# EAGLE library part CC3220MODASF12MONR (library cc3220mod)
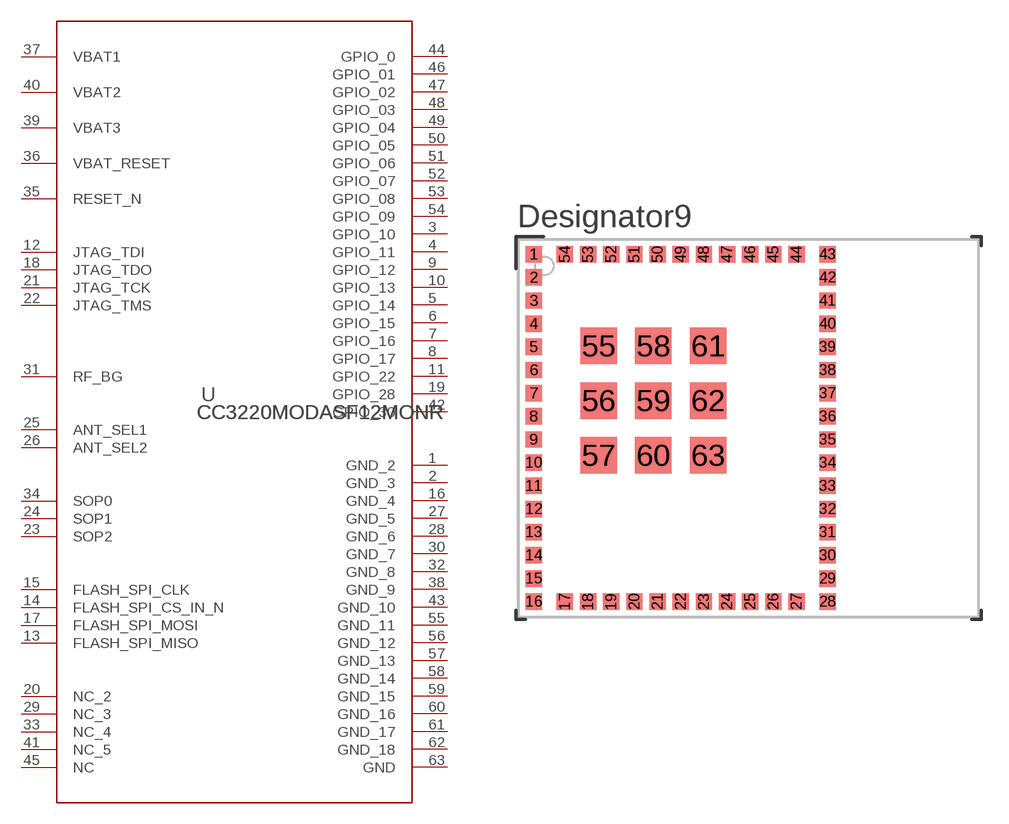
[diagram p0: symbol with the pads of MON0063A; footprint MON0063A]

Designator prefix U

## CC3220MODASF12MONR  [MON0063A]
1  GND_2  pwr
2  GND_3  pwr
3  GPIO_10
4  GPIO_11
5  GPIO_14
6  GPIO_15
7  GPIO_16
8  GPIO_17
9  GPIO_12
10  GPIO_13
11  GPIO_22
12  JTAG_TDI  in
13  FLASH_SPI_MISO  out
14  FLASH_SPI_CS_IN_N  in
15  FLASH_SPI_CLK  in
16  GND_4  pwr
17  FLASH_SPI_MOSI  in
18  JTAG_TDO  out
19  GPIO_28
20  NC_2  pas
21  JTAG_TCK  in
22  JTAG_TMS  in
23  SOP2  pas
24  SOP1  pas
25  ANT_SEL1  in
26  ANT_SEL2  in
27  GND_5  pwr
28  GND_6  pwr
29  NC_3  pas
30  GND_7  pwr
31  RF_BG
32  GND_8  pwr
33  NC_4  pas
34  SOP0  pas
35  RESET_N  in
36  VBAT_RESET  pas
37  VBAT1  pwr
38  GND_9  pwr
39  VBAT3  pwr
40  VBAT2  pwr
41  NC_5  pas
42  GPIO_30
43  GND_10  pwr
44  GPIO_0
45  NC  pas
46  GPIO_01
47  GPIO_02
48  GPIO_03
49  GPIO_04
50  GPIO_05
51  GPIO_06
52  GPIO_07
53  GPIO_08
54  GPIO_09
55  GND_11  pwr
56  GND_12  pwr
57  GND_13  pwr
58  GND_14  pwr
59  GND_15  pwr
60  GND_16  pwr
61  GND_17  pwr
62  GND_18  pwr
63  GND  pwr

## Footprint MON0063A (pad centres in mm)
smd 0.9 x 0.9: 1 -11.774,9.524; 2 -11.774,8.255; 3 -11.774,6.985; 4 -11.774,5.715; 5 -11.774,4.445; 6 -11.774,3.175; 7 -11.774,1.905; 8 -11.774,0.635; 9 -11.774,-0.635; 10 -11.774,-1.905; 11 -11.774,-3.175; 12 -11.774,-4.445; 13 -11.774,-5.715; 14 -11.774,-6.985; 15 -11.774,-8.255; 16 -11.774,-9.524; 17 -10.074,-9.524; 18 -8.804,-9.524; 19 -7.534,-9.524; 20 -6.264,-9.524; 21 -4.994,-9.524; 22 -3.724,-9.524; 23 -2.454,-9.524; 24 -1.184,-9.524; 25 0.086,-9.524; 26 1.356,-9.524; 27 2.626,-9.524; 28 4.326,-9.524; 29 4.326,-8.255; 30 4.326,-6.985; 31 4.326,-5.715; 32 4.326,-4.445; 33 4.326,-3.175; 34 4.326,-1.905; 35 4.326,-0.635; 36 4.326,0.635; 37 4.326,1.905; 38 4.326,3.175; 39 4.326,4.445; 40 4.326,5.715; 41 4.326,6.985; 42 4.326,8.255; 43 4.326,9.524; 44 2.626,9.524; 45 1.356,9.524; 46 0.086,9.524; 47 -1.184,9.524; 48 -2.454,9.524; 49 -3.724,9.524; 50 -4.994,9.524; 51 -6.264,9.524; 52 -7.534,9.524; 53 -8.804,9.524; 54 -10.074,9.524
smd 2 x 2: 55 -8.224,4.5; 56 -8.224,1.5; 57 -8.224,-1.5; 58 -5.224,4.5; 59 -5.224,1.5; 60 -5.224,-1.5; 61 -2.224,4.5; 62 -2.224,1.5; 63 -2.224,-1.5